# EAGLE library part A3977*LP (library everykey)
Microstepping DMOS Driver with Translator Operates bipolar stepper motors in full, 1/2, 1/4, or 1/8 step modes, with output drive capability of 35V and +/- 2.5A. Temp range: -40 to 125 C (A3977Kx), -20 to 85 C (A3977Sx)
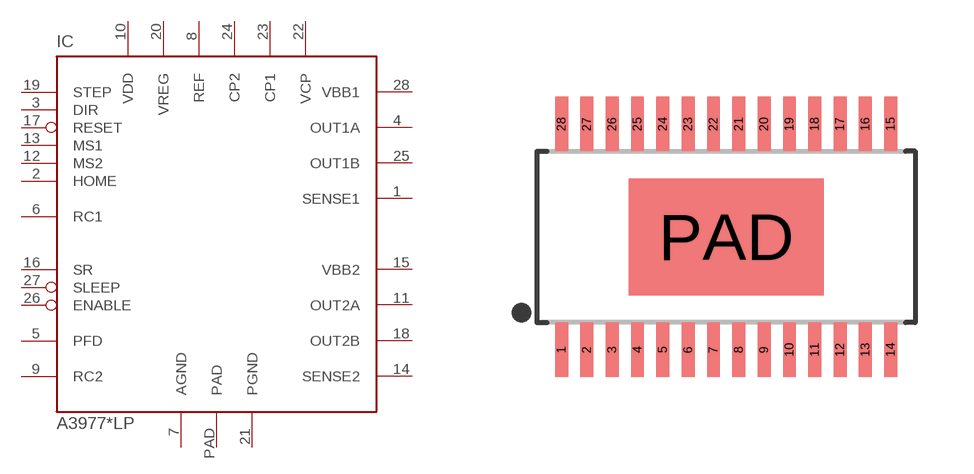
[diagram p1: symbol with the pads of TSSOP28-0.65-PAD; footprint TSSOP28-0.65-PAD]

Designator prefix IC

## A3977KLP, A3977SLP  [TSSOP28-0.65-PAD]
1  SENSE1  in
2  HOME  in
3  DIR  in
4  OUT1A  out
5  PFD  in
6  RC1
7  AGND  pwr
8  REF  out
9  RC2
10  VDD  pwr
11  OUT2A  out
12  MS2  in
13  MS1  in
14  SENSE2  in
15  VBB2  in
16  SR  in
17  RESET  in
18  OUT2B  out
19  STEP  in
20  VREG  pwr
21  PGND  pwr
22  VCP
23  CP1
24  CP2
25  OUT1B  out
26  ENABLE  in
27  SLEEP  in
28  VBB1  in
PAD  PAD  pas

## Footprint TSSOP28-0.65-PAD (pad centres in mm)
28-pin Thin Shrink Small Outline Package with Exposed Thermal Pad
smd 0.33 x 1.4: 1 -4.225,-2.9; 2 -3.575,-2.9; 3 -2.925,-2.9; 4 -2.275,-2.9; 5 -1.625,-2.9; 6 -0.975,-2.9; 7 -0.325,-2.9; 8 0.325,-2.9; 9 0.975,-2.9; 10 1.625,-2.9; 11 2.275,-2.9; 12 2.925,-2.9; 13 3.575,-2.9; 14 4.225,-2.9; 15 4.225,2.9; 16 3.575,2.9; 17 2.925,2.9; 18 2.275,2.9; 19 1.625,2.9; 20 0.975,2.9; 21 0.325,2.9; 22 -0.325,2.9; 23 -0.975,2.9; 24 -1.625,2.9; 25 -2.275,2.9; 26 -2.925,2.9; 27 -3.575,2.9; 28 -4.225,2.9
smd 5 x 3: PAD 0,0